# EAGLE library part PMA3-43-1W+ (library My_Library_RADAR)
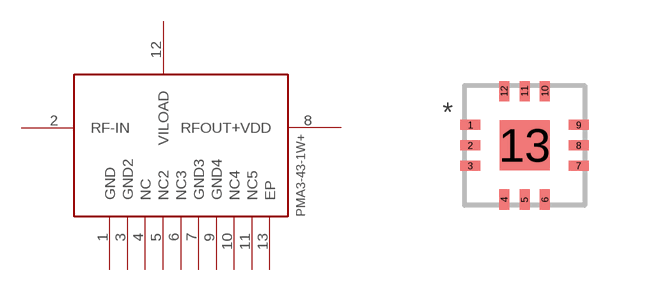
[diagram p14: symbol with the pads of PMA3-43-1W+; footprint PMA3-43-1W+]

Designator prefix -

## PMA3-43-1W+  [PMA3-43-1W+]
1  GND  pas
2  RF-IN  pas
3  GND2  pas
4  NC  pas
5  NC2  pas
6  NC3  pas
7  GND3  pas
8  RFOUT+VDD  pas
9  GND4  pas
10  NC4  pas
11  NC5  pas
12  VILOAD  pas
13  EP  pas

## Footprint PMA3-43-1W+ (pad centres in mm)
smd 0.51 x 0.25: 1 -1.355,0.51; 2 -1.355,0; 3 -1.355,-0.51; 7 1.355,-0.51; 8 1.355,0; 9 1.355,0.51
smd 0.25 x 0.51: 4 -0.51,-1.355; 5 0,-1.355; 6 0.51,-1.355; 10 0.51,1.355; 11 0,1.355; 12 -0.51,1.355
smd 1.25 x 1.25: 13 0,0